# EAGLE library part MC-118LS-H100 (library CONNECTORs)
5A USB 2.0 1 Straight 16P Female -55℃~+85℃ Type-C SMD USB Connectors ROHS
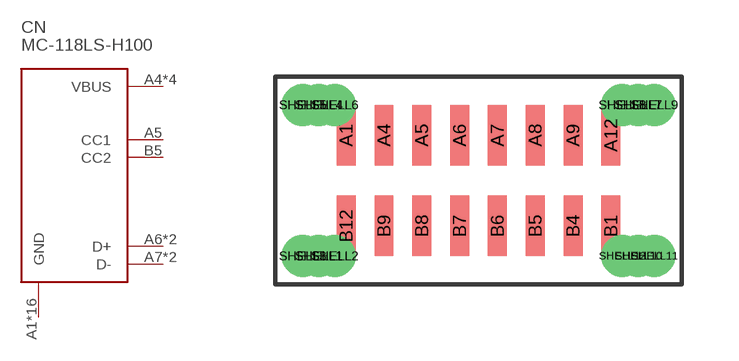
[diagram p92: symbol with the pads of MC-118LS-H100; footprint MC-118LS-H100]

Designator prefix CN

## MC-118LS-H100 (HEIGHT: 10; LCSC: C3039343; PRICE_PER: 0.38; VALUE: MC-118LS-H100)  [MC-118LS-H100]
A1  GND
A4  VBUS
A5  CC1
A6  D+
A7  D-
A9  VBUS
A12  GND
B1  GND
B4  VBUS
B5  CC2
B6  D+
B7  D-
B9  VBUS
B12  GND
SHELL1  GND
SHELL2  GND
SHELL3  GND
SHELL4  GND
SHELL5  GND
SHELL6  GND
SHELL7  GND
SHELL8  GND
SHELL9  GND
SHELL10  GND
SHELL11  GND
SHELL12  GND

## Footprint MC-118LS-H100 (pad centres in mm)
smd 0.5 x 1.6: A1 -3.5,1.2; A4 -2.5,1.2; A5 -1.5,1.2; A6 -0.5,1.2; A7 0.5,1.2; A8 1.5,1.2; A9 2.5,1.2; A12 3.5,1.2; B1 3.5,-1.2; B4 2.5,-1.2; B5 1.5,-1.2; B6 0.5,-1.2; B7 -0.5,-1.2; B8 -1.5,-1.2; B9 -2.5,-1.2; B12 -3.5,-1.2
drill 0.6: SHELL1 -4.225,-2; SHELL2 -3.8,-2; SHELL3 -4.65,-2; SHELL4 -4.225,2; SHELL5 -4.65,2; SHELL6 -3.8,2; SHELL7 4.225,2; SHELL8 3.8,2; SHELL9 4.65,2; SHELL10 4.225,-2; SHELL11 4.65,-2; SHELL12 3.8,-2